# Altium schematic symbol library RV-8803-C7-32.768k-3PPM-TA-QA.SchLib: 1 symbol
Pins are listed as number, name and electrical type; pins without a type are passive.

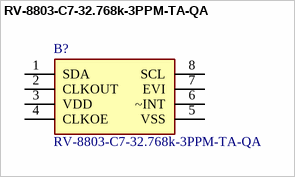
[diagram p0: symbol RV-8803-C7-32.768k-3PPM-TA-QA]

## RV-8803-C7-32.768k-3PPM-TA-QA
designator B?
RV-8803-C7 8-Terminal Ceramic Leadless Chip Carrier [LCC8]; Manufacturer_Name: Micro Crystal AG; Geometry.Height: 0.8mm; Mouser Part Number: 428-203035-MG01; Mouser Price/Stock: https://www.mouser.co.uk/ProductDetail/Micro-Crystal/RV-8803-C7-32.768k-3PPM-TA-QA?qs=7bTaA%2FLYtSb5zZOilbtzxw%3D%3D; Manufacturer_Part_Number: RV-8803-C7-32.768k-3PPM-TA-QA; Datasheet Link: https://www.mouser.de/datasheet/2/530/RV_8803_C7-2308195.pdf
footprint RV8803C7
pins: 1 SDA, 2 CLKOUT, 3 VDD, 4 CLKOE, 5 VSS, 6 ~INT, 7 EVI, 8 SCL